# EAGLE library part FDG6303N (library record_revc_ina225)
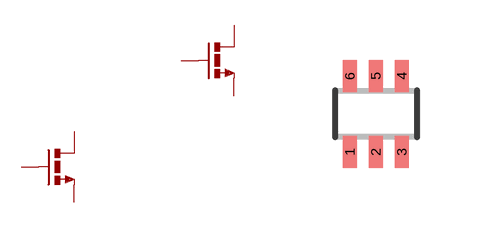
[diagram p1: symbol with the pads of SC70-6; footprint SC70-6]

Designator prefix -

## FDG6303N  [SC70-6]
1  S2  pas
2  G2  pas
3  D1  pas
4  S1  pas
5  G1  pas
6  D2  pas

## Footprint SC70-6 (pad centres in mm)
6-Lead Thin Shrink Small Outline Transistor Package SC70 Source: http://www.analog.com/static/imported-files/data_sheets/ADA4853-1_4853-2_4853-3.pdf
smd 0.35 x 0.8: 1 -0.65,-0.95; 2 0,-0.95; 3 0.65,-0.95; 4 0.65,0.95; 5 0,0.95; 6 -0.65,0.95